# Altium footprint library Semi.PcbLib: 4 footprints
Each footprint in its own frame and in the unit in brackets; x right, y up, seen from the top. Pads: shape width x height; smd on the part's side, far side on the other; paste and mask are expansions set on the pad; w line width, h text height; cw(c..) or ccw(c..) is an arc to the next point about the centre after c.
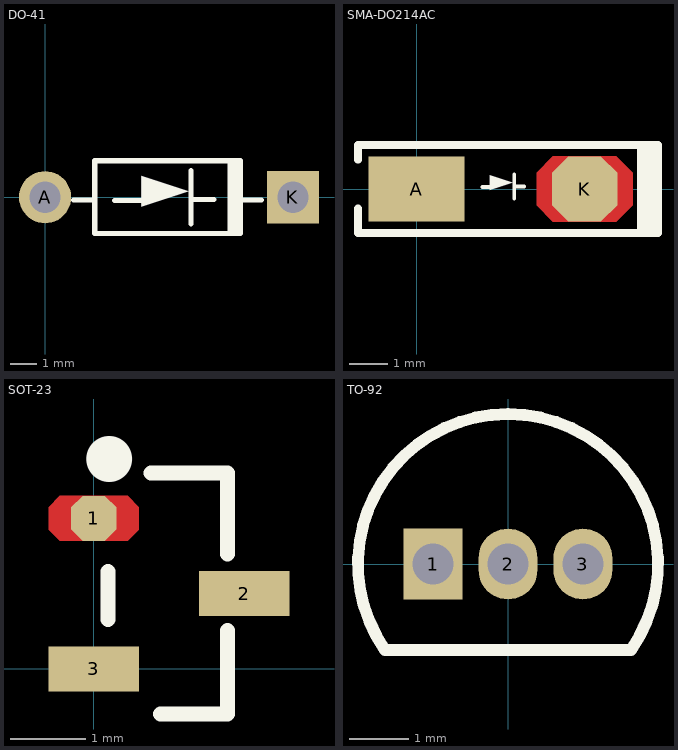
[diagram p0: the footprints below, top view; thin cyan lines are the x and y axes]

## DO-41 [mm]
pads (2):
  round 2 hole 1.2: A(0,0)
  rect 2x2 hole 1.2: K(9.5,0)
Top Overlay:
  lines w0.2: 1.098,-0.11 1.898,-0.11 ; 2.667,-0.127 3.683,-0.127 ; 5.588,-1.016 5.588,1.016 ; 5.614,-0.085 6.463,-0.085 ; 7.09,-1.343 7.09,1.389 ; 7.209,-1.366 7.209,1.365 ; 7.326,1.378 7.376,1.378 7.376,-1.354 ; 7.493,-0.11 8.293,-0.11 ; 1.905,-1.397 1.905,1.397 7.493,1.397 7.493,-1.397 1.905,-1.397
  text "►" at 3.686,-0.977 h3
3D body "DO-41.STEP": height 2.83, standoff -2.52, extent -0.479,-1.35 9.906,1.35

## SMA-DO214AC [mm]
pads (2):
  rect 2.5x1.7 smd: A(0,0)
  oct 1.7x1.7 smd: K(4.375,0)
Top Layer:
  region: 3.55,-0.85 3.125,-0.425 3.125,0.425 3.55,0.85 5.2,0.85 5.625,0.425 5.625,-0.425 5.2,-0.85
Top Overlay:
  lines w0.1: 1.71,0.049 1.914,0.049 ; 2.54,-0.254 2.54,0.381 ; 2.54,0.064 2.794,0.064
  lines w0.2: -1.524,-0.508 -1.524,-1.143 5.842,-1.143 ; -1.524,0.762 -1.524,1.143 5.842,1.143 ; 5.948,-1.143 5.948,1.079 ; 6.096,-1.143 6.096,1.143 ; 5.842,-1.143 5.842,0.635 5.842,1.143 ; 5.842,-1.143 6.283,-1.143 6.283,-1.124 6.283,1.143 6.096,1.143 ; 5.842,1.143 6.096,1.143
  text "►" at 1.906,-0.241 h1
3D body "SMA-DO214AC.STEP": height 2.4, standoff 0, extent -0.314,-1.375 4.886,1.375

## SOT-23 [mm]
pads (3):
  oct 0.6x0.6 smd: 1(0,2)
  rect 1.2x0.6 smd: 2(2,1) 3(0,0)
Top Layer:
  region: -0.45,1.7 -0.6,1.85 -0.6,2.15 -0.45,2.3 0.45,2.3 0.6,2.15 0.6,1.85 0.45,1.7
Top Overlay:
  lines w0.2: 0.192,0.656 0.192,1.291 ; 0.762,2.604 1.778,2.604 1.778,1.524 ; 0.889,-0.599 1.778,-0.599 1.778,0.508
  text "●" at -0.141,2.386 h1
3D body "SOT-23.STEP": height 1.1, standoff 0, extent -0.255,-0.508 2.287,2.492

## TO-92 [mm]
height 8
pads (3):
  rect 1x1.2 hole 0.7: 1(-1.27,0)
  oval 1x1.2 hole 0.7: 2(0,0) 3(1.27,0)
Top Overlay:
  lines w0.2: -2.083,-1.459 cw(c0,0) 2.083,-1.459 -2.083,-1.459
3D body "TO-92.STEP": height 8, standoff -5, extent -2.613,-1.591 2.613,2.613